# Altium footprint library WiFi_Lib.PcbLib: 42 footprints (part 2 of 3)
Each footprint in its own frame and in the unit in brackets; x right, y up, seen from the top. Pads: shape width x height; smd on the part's side, far side on the other; paste and mask are expansions set on the pad; w line width, h text height; cw(c..) or ccw(c..) is an arc to the next point about the centre after c.
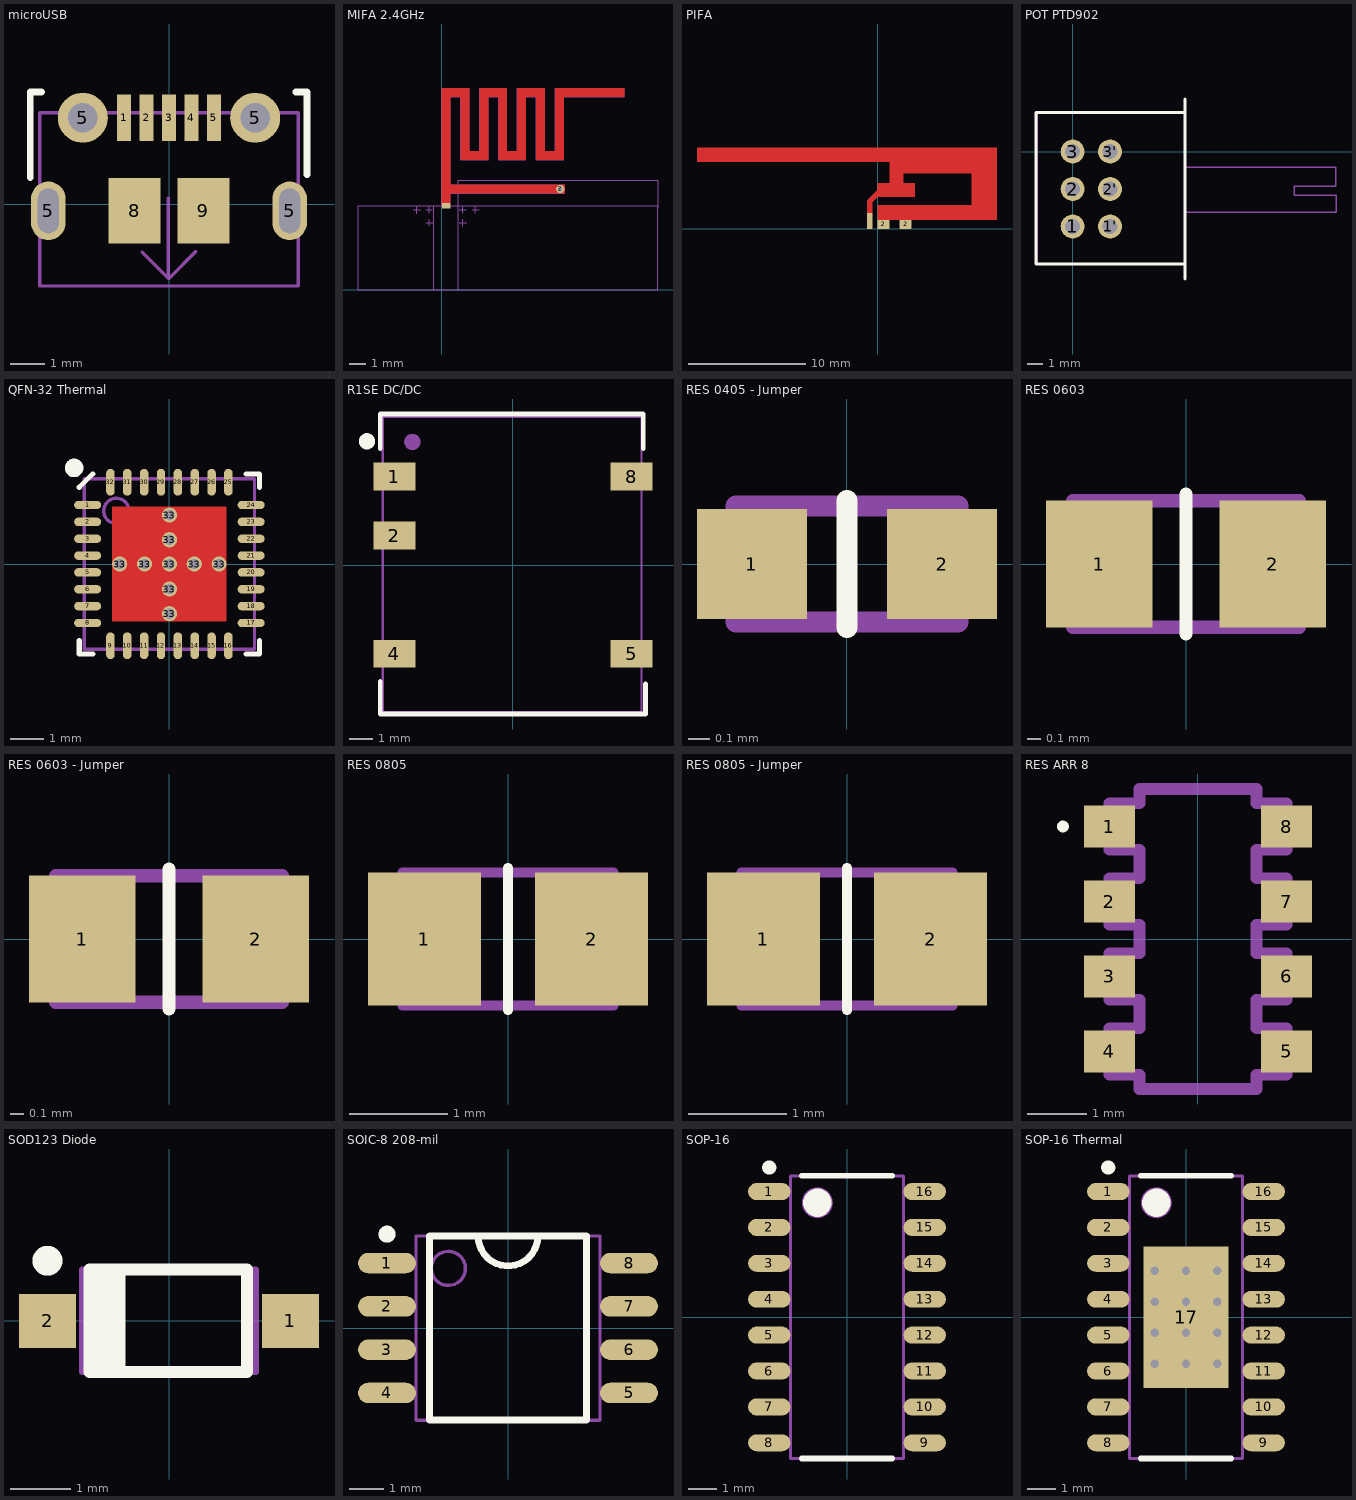
[diagram p1: the footprints below, top view; thin cyan lines are the x and y axes]

## microUSB [mil]
pads (11):
  rect 16x53 smd paste+0 mask+0: 1(-51.24,98.57) 2(-25.65,98.57) 3(-0.06,98.57) 4(25.53,98.57) 5(51.12,98.57)
  oval 39.37x66.93 hole 23.62 slot 51.18 at 90 deg: 5(-137.86,-7.73) 5(137.73,-7.73)
  round 57 hole 34: 5(-98.49,98.57) 5(98.36,98.57)
  rect 59x75 smd: 8(-39.43,-7.73) 9(39.31,-7.73)
Top Overlay:
  lines w7.87: -158.46,30.51 -158.46,127.95 -145.67,127.95 ; 144.69,127.95 157.48,127.95 157.48,33.46
Mechanical 13:
  lines w3.94: -30.51,-55.12 -0.98,-84.65 ; -0.98,6.89 -0.98,-84.65 ; 30.51,-54.13 0,-84.65 -0.98,-84.65 ; -147.64,-93.5 147.64,-93.5 147.64,104.33 -147.64,104.33 -147.64,-93.5
  text "'.Designator'" at -74.8,26.57 h59.06
Multi-Layer:
  lines w24: -137.86,-21.23 -137.86,5.77 ; 137.73,-21.23 137.73,5.77
3D body "1050171001.stp": height 106.8, standoff -23.12, extent -147.63,-92.51 147.64,104.34

## MIFA 2.4GHz [mm] "AN91445"
pads (2):
  rect 0.508x0.344 smd paste+0 mask+0: 1(0.254,5.08)
  round 0.5 hole 0.3: 2(7.164,6.094)
Top Layer:
  region: 0,5.08 0.508,5.08 0.508,5.842 7.442,5.842 7.442,6.35 0.508,6.35 0.508,11.684 1.143,11.684 1.143,7.874 2.794,7.874 2.794,11.684 3.429,11.684 3.429,7.874 5.08,7.874 5.08,11.684 5.715,11.684 5.715,7.874 7.366,7.874 7.366,11.684 11.049,11.684 11.049,12.192 6.858,12.192 6.858,8.382 6.223,8.382 6.223,12.192 4.572,12.192 4.572,8.382 3.937,8.382 3.937,12.192 2.286,12.192 2.286,8.382 1.651,8.382 1.651,12.192 0,12.192
  region: -0.004,5.074
Mechanical 2:
  lines w0.013: -1.724,4.826 -1.524,4.826 ; -1.524,4.601 -1.524,4.826 ; -1.524,5.049 -1.524,4.826 ; -1.326,4.826 -1.524,4.826 ; -0.979,4.064 -0.762,4.064 ; -0.974,4.826 -0.762,4.826 ; -0.876,0 -5.08,0 -5.08,5.08 -0.5,5.075 -0.5,-0.005 ; -0.762,3.862 -0.762,4.064 ; -0.762,4.262 -0.762,4.064 ; -0.762,4.637 -0.762,4.826 ; -0.762,5.013 -0.762,4.826 ; -0.576,4.826 -0.762,4.826 ; -0.572,0 1.079,0 ; -0.561,4.064 -0.762,4.064 ; 0,5.08 0,12.192 1.651,12.192 1.651,8.382 2.286,8.382 2.286,12.192 3.937,12.192 3.937,8.382 4.572,8.382 4.572,12.192 6.223,12.192 6.223,8.382 6.858,8.382 6.858,12.192 11.049,12.192 11.049,11.684 7.366,11.684 7.366,7.874 5.715,7.874 5.715,11.684 5.08,11.684 5.08,7.874 3.429,7.874 3.429,11.684 2.794,11.684 2.794,7.874 1.143,7.874 1.143,11.684 0.508,11.684 0.508,6.35 7.442,6.35 7.442,5.842 0.508,5.842 0.508,5.08 ; 1,0.02 1,5.075 13.081,5.08 13.081,0 1.384,0 ; 1.051,4.826 1.126,4.826 1.27,4.826 ; 1.061,4.064 1.27,4.064 ; 1.27,3.83 1.27,4.064 ; 1.27,4.27 1.27,4.064 ; 1.27,4.63 1.27,4.826 ; 1.27,5.02 1.27,4.966 1.27,4.826 ; 1.474,4.826 1.27,4.826 ; 1.489,4.064 1.27,4.064 ; 2.032,4.632 2.032,4.826 ; 2.032,5.018 2.032,4.826 ; 6.956,6.094 7.164,6.094 ; 7.164,5.911 7.164,6.094 ; 7.164,6.289 7.164,6.094 ; 7.369,6.094 7.164,6.094 ; 2.032,4.826 2.274,4.826 1.826,4.826 2.032,4.826
Mechanical 15:
  lines w0.013: -5.08,0 13.081,0 13.081,1.651 13.081,4.953 13.075,6.625 1,6.624 1,5.075 -0.876,5.08 -5.08,5.08 -5.08,0

## PIFA [mm]
pads (3):
  rect 0.46x1.346 smd paste+0 mask+0: 1(-0.675,0.665)
  rect 1x0.75 smd paste+0 mask+0: 2(0.5,0.375) 2(2.38,0.375)
Top Layer:
  region: 2.2,5.74 1,5.74 1,3.835 2.2,3.835
  region: 3.2,3.9 0,3.9 0,2.69 3.2,2.69
  region: 8,5.78 2.2,5.78 2.2,4.7 8,4.7
  region: 10.18,2.03 0,2.03 0,0.74 10.18,0.74
  region: 10.18,5.7 8,5.7 8,2.03 10.18,2.03
  region: 10.18,6.91 -15.4,6.91 -15.4,5.7 10.18,5.7
  lines w0.46: -0.68,1.25 -0.68,2.33 0.168,3.178

## POT PTD902 [mm]
pads (6):
  round 1.6 hole 1: 1(0,-5) 1'(2.5,-5) 2(0,-2.5) 2'(2.5,-2.5) 3(0,0) 3'(2.5,0)
Top Overlay:
  lines w0.2: 7.5,-8.525 7.5,3.525 ; 7.5,-7.5 -2.45,-7.5 -2.45,2.6 7.5,2.6
Mechanical 13:
  lines w0.1: 7.475,2.6 -2.375,2.6 -2.375,-7.525 7.525,-7.525 7.525,2.55 ; 7.525,-4.05 17.6,-4.05 17.6,-2.925 14.8,-2.925 14.8,-2.325 17.575,-2.325 17.575,-1.05 7.575,-1.05
  text "'.Designator'" at 1.125,-0.075 h1.5
3D body "ptd902-xx15k-xxxx.stp": height 11.36, standoff -3.49, extent -2.15,-7.3 22.5,2.3

## QFN-32 Thermal [mm] "QFN, 32-Leads, Body 5.00x5.00mm, Pitch 0.50mm, Thermal Pad 3.70x3.70mm, IPC Medium Density"
height 0.9
pads (41):
  oval 0.8x0.25 smd mask+0.05: 1(-2.425,1.75) 2(-2.425,1.25) 3(-2.425,0.75) 4(-2.425,0.25) 5(-2.425,-0.25) 6(-2.425,-0.75) 7(-2.425,-1.25) 8(-2.425,-1.75) 17(2.425,-1.75) 18(2.425,-1.25) 19(2.425,-0.75) 20(2.425,-0.25) 21(2.425,0.25) 22(2.425,0.75) 23(2.425,1.25) 24(2.425,1.75)
  oval 0.25x0.8 smd mask+0.05: 9(-1.75,-2.425) 10(-1.25,-2.425) 11(-0.75,-2.425) 12(-0.25,-2.425) 13(0.25,-2.425) 14(0.75,-2.425) 15(1.25,-2.425) 16(1.75,-2.425) 25(1.75,2.425) 26(1.25,2.425) 27(0.75,2.425) 28(0.25,2.425) 29(-0.25,2.425) 30(-0.75,2.425) 31(-1.25,2.425) 32(-1.75,2.425)
  round 0.45 hole 0.3 mask+0: 33(-1.475,0) 33(-0.738,0) 33(0,-1.475) 33(0,-0.744) 33(0,0) 33(0,0.719) 33(0,1.45) 33(0.737,0) 33(1.475,0)
Top Layer:
  rectangle: -1.7,-1.7 1.7,1.7
Top Overlay:
  circle w0.3: c-2.825,2.85 r0.125
  lines w0.152: -2.675,-2.275 -2.675,-2.675 -2.275,-2.675 ; -2.675,2.275 -2.275,2.675 ; 2.275,-2.675 2.675,-2.675 2.675,-2.275 ; 2.275,2.675 2.675,2.675 2.675,2.275
Top Paste:
  region: -0.25,-1.65 -0.25,-0.25 -1.65,-0.25 -1.65,-1.65
  region: 1.65,-0.25 0.25,-0.25 0.25,-1.65 1.65,-1.65
  region: 1.65,1.65 0.25,1.65 0.25,0.25 1.65,0.25
  rectangle: -1.65,0.25 -0.25,1.65
Top Solder:
  rectangle: -1.7,0.2 -0.2,1.7
  region: 1.7,1.7 0.2,1.7 0.2,0.2 1.7,0.2
  region: 1.7,-0.2 0.2,-0.2 0.2,-1.7 1.7,-1.7
  region: -0.2,-1.7 -0.2,-0.2 -1.7,-0.2 -1.7,-1.7
  rectangle: -2.925,-1.925 -2.125,1.925
  region: 1.925,-2.925 1.925,-2.125 -1.925,-2.125 -1.925,-2.925
  region: 2.925,1.925 2.125,1.925 2.125,-1.925 2.925,-1.925
  region: -1.925,2.925 -1.925,2.125 1.925,2.125 1.925,2.925
Mechanical 13:
  circle w0.1: c-1.575,1.575 r0.375
  lines w0.1: -2.525,-2.525 -2.525,2.525 2.525,2.525 2.525,-2.525 -2.525,-2.525
  text "'.Designator'" at -1.575,-1.125 h1.5
3D body "QFN-32 Thermal.step": height 0.9, standoff 0, extent -2.575,-2.575 2.575,2.575

## R1SE DC/DC [mm]
pads (5):
  rect 1.8x1.2 smd: 1(-5.1,3.81) 2(-5.1,1.27) 4(-5.1,-3.81) 5(5.1,-3.81) 8(5.1,3.81)
Top Overlay:
  circle w0.4: c-6.275,5.325 r0.15
  lines w0.2: -5.7,-5 -5.7,-6.4 5.7,-6.4 5.7,-5.1 ; -5.7,5 -5.7,6.5 5.6,6.5 5.6,5
Mechanical 13:
  circle w0.4: c-4.325,5.3 r0.15
  lines w0.1: -5.6,-6.325 5.525,-6.325 5.525,6.375 -5.6,6.375 -5.6,-6.325
  text "'.Designator'" at -2.1,-0.75 h2
3D body "R1SE-0505-R--3DModel-STEP-56544.STEP": height 7.01, standoff 0.01, extent -5.6,-6.375 5.5,6.375

## RES 0405 - Jumper [mm] "Chip Resistor, 2-Leads, Body 1.00x0.50mm, IPC Medium Density"
height 0.4
pads (2):
  rect 0.52x0.52 smd mask+0.05: 1(-0.45,0) 2(0.45,0)
Top Overlay:
  lines w0.1: 0,-0.3 0,0.3
Mechanical 13:
  lines w0.1: -0.525,-0.275 0.525,-0.275 0.525,0.275 -0.525,0.275 -0.525,-0.275
  text "'.Designator'" at -0.45,-0.175 h0.3
3D body "RES 0405.step": height 0.4, standoff 0, extent -0.525,-0.275 0.525,0.275

## RES 0603 [mm] "Chip Resistor, 2-Leads, Body 1.60x0.85mm, IPC Medium Density"
height 0.55
pads (2):
  rect 0.8x0.95 smd: 1(-0.65,0) 2(0.65,0)
Top Overlay:
  lines w0.1: 0,-0.525 0,0.525
Mechanical 13:
  lines w0.1: -0.85,-0.475 0.85,-0.475 0.85,0.475 -0.85,0.475 -0.85,-0.475
  text "'.Designator'" at -0.55,-0.275 h0.5
3D body "RESC1608X06N.step": height 0.55, standoff 0, extent -0.85,-0.475 0.85,0.475

## RES 0603 - Jumper [mm] "Chip Resistor, 2-Leads, Body 1.60x0.85mm, IPC Medium Density"
height 0.55
pads (2):
  rect 0.8x0.95 smd: 1(-0.65,0) 2(0.65,0)
Top Overlay:
  lines w0.1: 0,-0.525 0,0.525
Mechanical 13:
  lines w0.1: -0.85,-0.475 -0.85,0.475 0.85,0.475 0.85,-0.475 -0.85,-0.475
  text "'.Designator'" at -0.55,-0.275 h0.5
3D body "RESC1608X06N.step": height 0.55, standoff 0, extent -0.85,-0.475 0.85,0.475

## RES 0805 [mm] "Chip Resistor, 2-Leads, Body 1.95x1.20mm, IPC Medium Density"
height 0.6
pads (2):
  rect 1.15x1.35 smd: 1(-0.85,0) 2(0.85,0)
Top Overlay:
  lines w0.1: 0,-0.725 0,0.725
Mechanical 13:
  lines w0.1: -1.075,-0.675 -1.075,0.675 1.075,0.675 1.075,-0.675 -1.075,-0.675
  text "'.Designator'" at -0.8,-0.5 h1
3D body "RESC1912X06N.step": height 0.6, standoff 0, extent -1.075,-0.675 1.075,0.675

## RES 0805 - Jumper [mm] "Chip Resistor, 2-Leads, Body 1.95x1.20mm, IPC Medium Density"
height 0.6
pads (2):
  rect 1.15x1.35 smd: 1(-0.85,0) 2(0.85,0)
Top Overlay:
  lines w0.1: 0,-0.725 0,0.725
Mechanical 13:
  lines w0.1: -1.075,-0.675 1.075,-0.675 1.075,0.675 -1.075,0.675 -1.075,-0.675
  text "'.Designator'" at -0.875,-0.325 h0.7
3D body "RESC1912X06N.step": height 0.6, standoff 0, extent -1.075,-0.675 1.075,0.675

## RES ARR 8 [mm] "Chip Array, ConvexE, 8-Leads, Pitch 1.27mm, Body 5.08x3.05mm, IPC Medium Density"
height 0.55
pads (8):
  rect 0.86x0.71 smd: 1(-1.5,1.905) 2(-1.5,0.635) 3(-1.5,-0.635) 4(-1.5,-1.905) 5(1.5,-1.905) 6(1.5,-0.635) 7(1.5,0.635) 8(1.5,1.905)
Top Overlay:
  circle w0.1: c-2.286,1.905 r0.05
Mechanical 13:
  lines w0.2: -1.5,-2.3 -1.5,-1.51 -0.99,-1.51 -0.99,-1.03 -1.5,-1.03 -1.5,-0.24 -0.99,-0.24 -0.99,0.24 -1.5,0.24 -1.5,1.03 -0.99,1.03 -0.99,1.51 -1.5,1.51 -1.5,2.3 -0.99,2.3 -0.99,2.54 0.99,2.54 0.99,2.3 1.5,2.3 1.5,1.51 0.99,1.51 0.99,1.03 1.5,1.03 1.5,0.24 0.99,0.24 0.99,-0.24 1.5,-0.24 1.5,-1.03 0.99,-1.03 0.99,-1.51 1.5,-1.51 1.5,-2.3 0.99,-2.3 0.99,-2.54 -0.99,-2.54 -0.99,-2.3 -1.5,-2.3
  text "'.Designator'" at -0.675,-0.425 h1
3D body "RES ARR 8.step": height 0.55, standoff 0, extent -1.575,-2.54 1.575,2.54

## SOD123 Diode [mm] "2-Leads, Body 1.55x2.70mm, IPC Medium Density"
height 1.35
pads (2):
  rect 0.95x0.9 smd: 1(2.025,0) 2(-2.025,0)
Top Overlay:
  circle w0.25: c-2.025,1 r0.125
  rectangle: -1.325,-0.9 -0.725,0.85
  lines w0.2: -1.325,-0.85 1.3,-0.85 1.3,0.85 -1.325,0.85 -1.325,-0.85
Mechanical 13:
  rectangle: -1.45,-0.9 -0.8,0.85
  lines w0.1: -1.45,-0.85 1.45,-0.85 1.45,0.85 -1.45,0.85 -1.45,-0.85
  text "'.Designator'" at -0.55,-0.5 h1
3D body "1N5819HW-7-F--3DModel-STEP-56544.STEP": height 1.53, standoff 0, extent -1.85,-0.775 1.8,0.775

## SOIC-8 208-mil [mm] "SOIC, 8-Leads, Body 5.28x5.28mm, Pitch 1.27mm, IPC Medium Density"
height 2.16
pads (8):
  oval 1.7x0.6 smd: 1(-3.55,1.905) 2(-3.55,0.635) 3(-3.55,-0.635) 4(-3.55,-1.905) 5(3.55,-1.905) 6(3.55,-0.635) 7(3.55,0.635) 8(3.55,1.905)
Top Overlay:
  circle w0.25: c-3.55,2.755 r0.125
  lines w0.2: -0.878,2.7 ccw(c0,2.7) 0.878,2.7 ; -2.3,-2.7 -2.3,2.7 2.3,2.7 2.3,-2.7 -2.3,-2.7
Mechanical 13:
  circle w0.1: c-1.75,1.75 r0.5
  lines w0.1: -2.7,-2.7 -2.7,2.7 2.7,2.7 2.7,-2.7 -2.7,-2.7
  text "'.Designator'" at -1.025,-0.725 h1
3D body "SOIC-8 208-mil.step": height 2.16, standoff 0, extent -3.95,-2.7 3.95,2.7

## SOP-16 [mm] "SOP, 16-Leads, Body 9.90x3.90mm, Pitch 1.27mm, IPC Medium Density"
height 1.75
pads (16):
  oval 1.5x0.6 smd: 1(-2.75,4.445) 2(-2.75,3.175) 3(-2.75,1.905) 4(-2.75,0.635) 5(-2.75,-0.635) 6(-2.75,-1.905) 7(-2.75,-3.175) 8(-2.75,-4.445) 9(2.75,-4.445) 10(2.75,-3.175) 11(2.75,-1.905) 12(2.75,-0.635) 13(2.75,0.635) 14(2.75,1.905) 15(2.75,3.175) 16(2.75,4.445)
Top Overlay:
  circle w0.5: c-1.05,4.05 r0.25
  circle w0.25: c-2.75,5.295 r0.125
  lines w0.2: -1.6,-5 1.6,-5 ; -1.6,5 1.6,5
Mechanical 13:
  circle w0.1: c-1.05,4.05 r0.5
  lines w0.1: -2,-5 2,-5 2,5 -2,5 -2,-5
  text "'.Designator'" at 0.725,-3 h1.5
3D body "SOP-16 Thermal.step": height 1.75, standoff 0, extent -3.025,-5 3.025,5

## SOP-16 Thermal [mm] "SOP, 16-Leads, Body 9.90x3.90mm, Pitch 1.27mm, Thermal Pad 5.00x3.00mm, IPC Medium Density"
height 1.75
pads (17):
  oval 1.5x0.6 smd: 1(-2.75,4.445) 2(-2.75,3.175) 3(-2.75,1.905) 4(-2.75,0.635) 5(-2.75,-0.635) 6(-2.75,-1.905) 7(-2.75,-3.175) 8(-2.75,-4.445) 9(2.75,-4.445) 10(2.75,-3.175) 11(2.75,-1.905) 12(2.75,-0.635) 13(2.75,0.635) 14(2.75,1.905) 15(2.75,3.175) 16(2.75,4.445)
  rect 3x5 smd: 17(0,0)
via -1.1,1.65 diameter 0.5 hole 0.3
via 0,1.65 diameter 0.5 hole 0.3
via 1.1,1.65 diameter 0.5 hole 0.3
via -1.1,0.55 diameter 0.5 hole 0.3
via 0,0.55 diameter 0.5 hole 0.3
via 1.1,0.55 diameter 0.5 hole 0.3
via -1.1,-0.55 diameter 0.5 hole 0.3
via 0,-0.55 diameter 0.5 hole 0.3
via 1.1,-0.55 diameter 0.5 hole 0.3
via -1.1,-1.65 diameter 0.5 hole 0.3
via 0,-1.65 diameter 0.5 hole 0.3
via 1.1,-1.65 diameter 0.5 hole 0.3
Top Overlay:
  circle w0.25: c-2.75,5.295 r0.125
  circle w0.5: c-1.05,4.05 r0.25
  lines w0.2: -1.6,-5 1.6,-5 ; -1.6,5 1.6,5
Mechanical 13:
  circle w0.1: c-1.05,4.05 r0.5
  lines w0.1: -2,-5 -2,5 2,5 2,-5 -2,-5
  text "'.Designator'" at 0.775,-2.2 h1.5
3D body "SOP-16 Thermal.step": height 1.75, standoff 0, extent -3.025,-5 3.025,5